# EAGLE library part IBA201 (library IC)
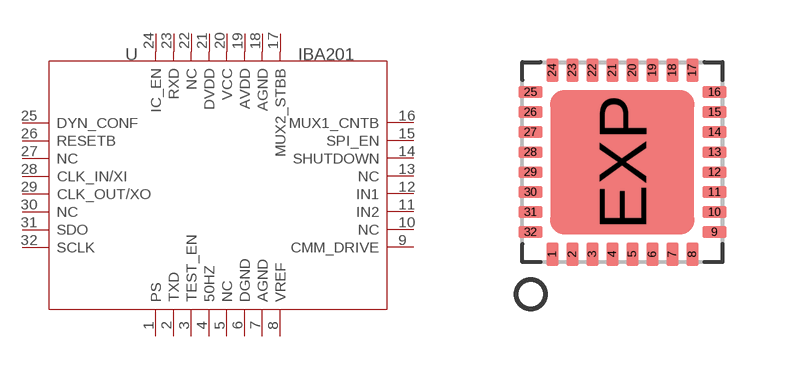
[diagram p168: symbol with the pads of QFN32-5X5; footprint QFN32-5X5]

Designator prefix U

## IBA201  [QFN32-5X5]
1  PS  out
2  TXD  out
3  TEST_EN  in
4  50HZ  in
5  NC  nc
6  DGND  sup
7  AGND  sup
8  VREF  sup
9  CMM_DRIVE  out
10  NC  nc
11  IN2  in
12  IN1  in
13  NC  nc
14  SHUTDOWN  in
15  SPI_EN  in
16  MUX1_CNTB  out
17  MUX2_STBB  out
18  AGND  sup
19  AVDD  sup
20  VCC  sup
21  DVDD  sup
22  NC
23  RXD  in
24  IC_EN  in
25  DYN_CONF  in
26  RESETB  in
27  NC  nc
28  CLK_IN/XI  in
29  CLK_OUT/XO  out
30  NC  nc
31  SDO  out
32  SCLK  out

## Footprint QFN32-5X5 (pad centres in mm)
smd 0.3 x 0.6: 1 -1.75,-2.3; 2 -1.25,-2.3; 3 -0.75,-2.3; 4 -0.25,-2.3; 5 0.25,-2.3; 6 0.75,-2.3; 7 1.25,-2.3; 8 1.75,-2.3; 17 1.75,2.3; 18 1.25,2.3; 19 0.75,2.3; 20 0.25,2.3; 21 -0.25,2.3; 22 -0.75,2.3; 23 -1.25,2.3; 24 -1.75,2.3
smd 0.6 x 0.3: 9 2.3,-1.75; 10 2.3,-1.25; 11 2.3,-0.75; 12 2.3,-0.25; 13 2.3,0.25; 14 2.3,0.75; 15 2.3,1.25; 16 2.3,1.75; 25 -2.3,1.75; 26 -2.3,1.25; 27 -2.3,0.75; 28 -2.3,0.25; 29 -2.3,-0.25; 30 -2.3,-0.75; 31 -2.3,-1.25; 32 -2.3,-1.75
smd 3.6 x 3.6: EXP 0,0